# Altium schematic symbol library NCP705MTADJTCG.SchLib: 1 symbol
Pins are listed as number, name and electrical type; pins without a type are passive.

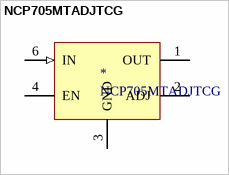
[diagram p0: symbol NCP705MTADJTCG]

## NCP705MTADJTCG
designator *
500 mA, Ultra-Low  Quiescent Current, IQ 13 A,  Ultra-Low Noise, LDO  Voltage Regulator; Manufacturer: ON Semiconductor; Manufacturer Part Number: NCP705MTADJTCG; Digi-Key link: https://www.digikey.ca/product-detail/en/on-semiconductor/NCP705MTADJTCG/NCP705MTADJTCGOSCT-ND/8538627
footprint WDFN6
pins: 1 OUT (power), 2 ADJ, 3 GND (power), 4 EN, 6 IN (in)